# EAGLE library part FD6288 (library tmxk)
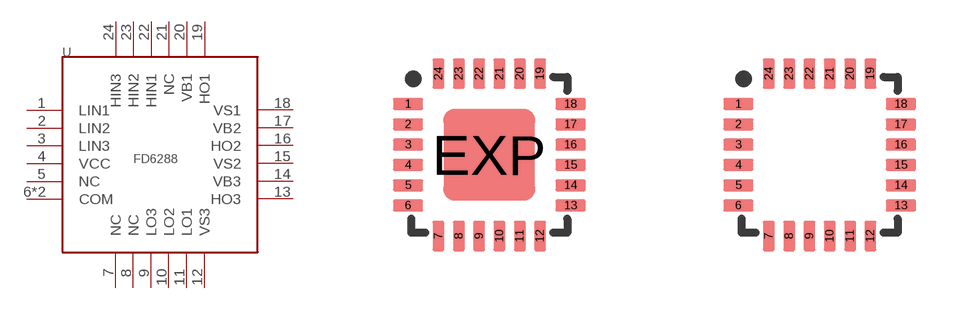
[diagram p39: symbol with the pads of QFN24; footprints QFN24, QFN24-NOPAD]

Designator prefix U

## FD6288PAD  [QFN24]
1  LIN1
2  LIN2
3  LIN3
4  VCC
5  NC
6  COM
7  NC
8  NC
9  LO3
10  LO2
11  LO1
12  VS3
13  HO3
14  VB3
15  VS2
16  HO2
17  VB2
18  VS1
19  HO1
20  VB1
21  NC
22  HIN1
23  HIN2
24  HIN3
EXP  COM

## FD6288NOPAD  [QFN24-NOPAD]
1  LIN1
2  LIN2
3  LIN3
4  VCC
5  NC
6  COM
7  NC
8  NC
9  LO3
10  LO2
11  LO1
12  VS3
13  HO3
14  VB3
15  VS2
16  HO2
17  VB2
18  VS1
19  HO1
20  VB1
21  NC
22  HIN1
23  HIN2
24  HIN3

## Footprint QFN24 (pad centres in mm)
QFN 4x4 mm Source: http://www.hittite.com/product_info/product_specs/dividersdetectors/hmc394lp4.pdf
smd 0.762 x 0.3: 1 -2.032,1.27; 2 -2.032,0.762; 3 -2.032,0.254; 4 -2.032,-0.254; 5 -2.032,-0.762; 6 -2.032,-1.27; 13 2.032,-1.27; 14 2.032,-0.762; 15 2.032,-0.254; 16 2.032,0.254; 17 2.032,0.762; 18 2.032,1.27
smd 0.3 x 0.762: 7 -1.27,-2.032; 8 -0.762,-2.032; 9 -0.254,-2.032; 10 0.254,-2.032; 11 0.762,-2.032; 12 1.27,-2.032; 19 1.27,2.032; 20 0.762,2.032; 21 0.254,2.032; 22 -0.254,2.032; 23 -0.762,2.032; 24 -1.27,2.032
smd 2.286 x 2.286: EXP 0,0

## Footprint QFN24-NOPAD (pad centres in mm)
QFN 4x4 mm Source: http://www.hittite.com/product_info/product_specs/dividersdetectors/hmc394lp4.pdf
smd 0.762 x 0.3: 1 -2.032,1.27; 2 -2.032,0.762; 3 -2.032,0.254; 4 -2.032,-0.254; 5 -2.032,-0.762; 6 -2.032,-1.27; 13 2.032,-1.27; 14 2.032,-0.762; 15 2.032,-0.254; 16 2.032,0.254; 17 2.032,0.762; 18 2.032,1.27
smd 0.3 x 0.762: 7 -1.27,-2.032; 8 -0.762,-2.032; 9 -0.254,-2.032; 10 0.254,-2.032; 11 0.762,-2.032; 12 1.27,-2.032; 19 1.27,2.032; 20 0.762,2.032; 21 0.254,2.032; 22 -0.254,2.032; 23 -0.762,2.032; 24 -1.27,2.032